# Altium schematic symbol library Connector-EDG-3.81.SchLib: 15 symbols
Pins are listed as number, name and electrical type; pins without a type are passive.

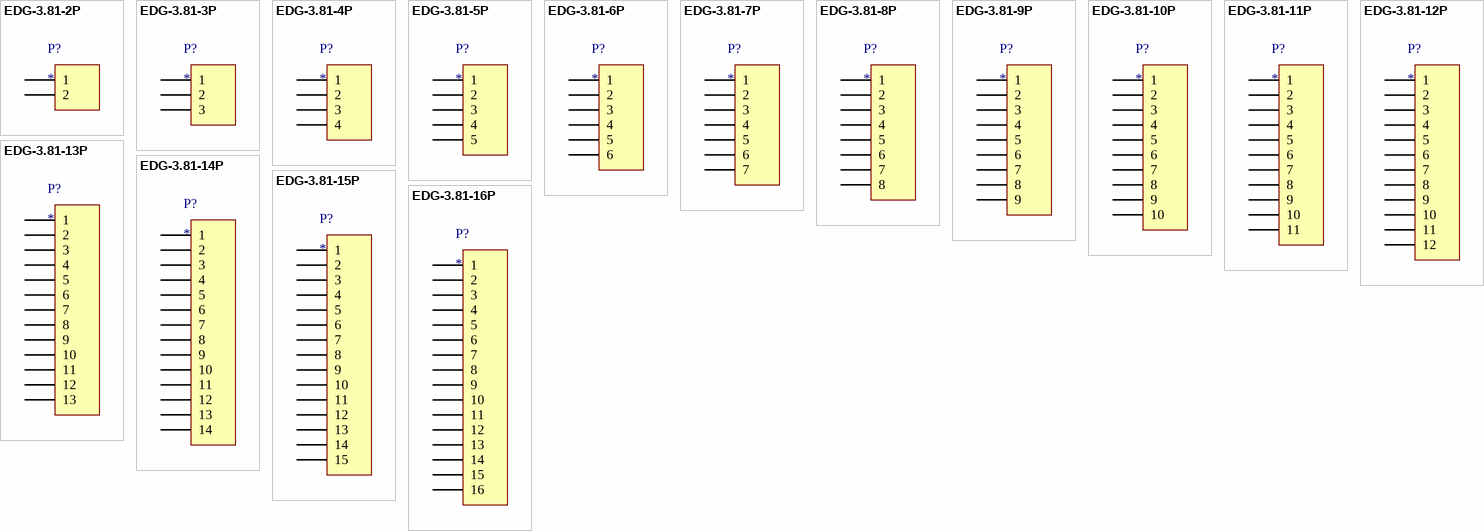
[diagram p0: symbols EDG-3.81-2P to EDG-3.81-16P]

## EDG-3.81-2P
designator P?
15/2EDG,2-Pin
footprint EDG-3.81_2P_AW
pins: 1, 2

## EDG-3.81-3P
designator P?
15/2EDG,3-Pin
footprint EDG-3.81_3P_AW
pins: 1, 2, 3

## EDG-3.81-4P
designator P?
15/2EDG,4-Pin
footprint EDG-3.81_4P_AW
pins: 1, 2, 3, 4

## EDG-3.81-5P
designator P?
15/2EDG,5-Pin
footprint EDG-3.81_5P_AW
pins: 1, 2, 3, 4, 5

## EDG-3.81-6P
designator P?
15/2EDG,6-Pin
footprint EDG-3.81_6P_AW
pins: 1, 2, 3, 4, 5, 6

## EDG-3.81-7P
designator P?
15/2EDG,7-Pin
footprint EDG-3.81_7P_AW
pins: 1, 2, 3, 4, 5, 6, 7

## EDG-3.81-8P
designator P?
15/2EDG,8-Pin
footprint EDG-3.81_8P_AW
pins: 1, 2, 3, 4, 5, 6, 7, 8

## EDG-3.81-9P
designator P?
15/2EDG,9-Pin
footprint EDG-3.81_9P_AW
pins: 1, 2, 3, 4, 5, 6, 7, 8, 9

## EDG-3.81-10P
designator P?
15/2EDG,10-Pin
footprint EDG-3.81_10P_AW
pins: 1, 2, 3, 4, 5, 6, 7, 8, 9, 10

## EDG-3.81-11P
designator P?
15/2EDG,11-Pin
footprint EDG-3.81_11P_AW
pins: 1, 2, 3, 4, 5, 6, 7, 8, 9, 10, 11

## EDG-3.81-12P
designator P?
15/2EDG,12-Pin
footprint EDG-3.81_12P_AW
pins: 1, 2, 3, 4, 5, 6, 7, 8, 9, 10, 11, 12

## EDG-3.81-13P
designator P?
15/2EDG,13-Pin
footprint EDG-3.81_13P_AW
pins: 1, 2, 3, 4, 5, 6, 7, 8, 9, 10, 11, 12, 13

## EDG-3.81-14P
designator P?
15/2EDG,14-Pin
footprint EDG-3.81_14P_AW
pins: 1, 2, 3, 4, 5, 6, 7, 8, 9, 10, 11, 12, 13, 14

## EDG-3.81-15P
designator P?
15/2EDG,15-Pin
footprint EDG-3.81_15P_AW
pins: 1, 2, 3, 4, 5, 6, 7, 8, 9, 10, 11, 12, 13, 14, 15

## EDG-3.81-16P
designator P?
15/2EDG,16-Pin
footprint EDG-3.81_16P_AW
pins: 1, 2, 3, 4, 5, 6, 7, 8, 9, 10, 11, 12, 13, 14, 15, 16